# EAGLE library part TPS61032 (library LITTLEBITS140826)
Texas Instruments MPN: TPS61032 DC-DC Converter
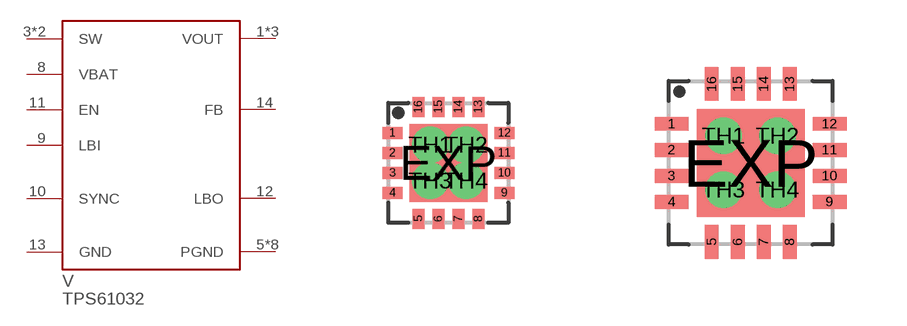
[diagram p75: symbol with the pads of QFN16; footprints QFN16, VQFN16]

Designator prefix V

## TPS61032  [QFN16]
1  VOUT
3  SW
4  SW
5  PGND
6  PGND
7  PGND
8  VBAT
9  LBI
10  SYNC
11  EN
12  LBO
13  GND
14  FB
15  VOUT
16  VOUT
EXP  PGND
TH1  PGND
TH2  PGND
TH3  PGND
TH4  PGND

## TPS61032"  [VQFN16]
Pads as for QFN16

## TPS61032AL  [VQFN16_THERM]
1  VOUT
3  SW
4  SW
5  PGND
6  PGND
7  PGND
8  VBAT
9  LBI
10  SYNC
11  EN
12  LBO
13  GND
14  FB
15  VOUT
16  VOUT
EXP  PGND
TH1  PGND
TH2  PGND
TH3  PGND
TH4  PGND
TH5  PGND
TH6  PGND
TH7  PGND
TH8  PGND
TH9  PGND

## Footprint QFN16 (pad centres in mm)
smd 0.5 x 0.3: 1 -1.4,0.75; 2 -1.4,0.25; 3 -1.4,-0.25; 4 -1.4,-0.75; 9 1.4,-0.75; 10 1.4,-0.25; 11 1.4,0.25; 12 1.4,0.75
smd 0.3 x 0.5: 5 -0.75,-1.4; 6 -0.25,-1.4; 7 0.25,-1.4; 8 0.75,-1.4; 13 0.75,1.4; 14 0.25,1.4; 15 -0.25,1.4; 16 -0.75,1.4
smd 1.95 x 1.95: EXP 0,0
drill 0.406 pad 0.406: TH1 -0.45,0.45; TH2 0.45,0.45; TH3 -0.45,-0.45; TH4 0.45,-0.45

## Footprint VQFN16 (pad centres in mm)
smd 0.85 x 0.35: 1 -1.975,0.975; 2 -1.975,0.325; 3 -1.975,-0.325; 4 -1.975,-0.975; 9 1.975,-0.975; 10 1.975,-0.325; 11 1.975,0.325; 12 1.975,0.975
smd 0.35 x 0.85: 5 -0.975,-1.975; 6 -0.325,-1.975; 7 0.325,-1.975; 8 0.975,-1.975; 13 0.975,1.975; 14 0.325,1.975; 15 -0.325,1.975; 16 -0.975,1.975
smd 2.7 x 2.7: EXP 0,0
drill 0.406 pad 0.406: TH1 -0.675,0.675; TH2 0.675,0.675; TH3 -0.675,-0.675; TH4 0.675,-0.675

## Footprint VQFN16_THERM (pad centres in mm)
smd 0.85 x 0.35: 1 -1.975,0.975; 2 -1.975,0.325; 3 -1.975,-0.325; 4 -1.975,-0.975; 9 1.975,-0.975; 10 1.975,-0.325; 11 1.975,0.325; 12 1.975,0.975
smd 0.35 x 0.85: 5 -0.975,-1.975; 6 -0.325,-1.975; 7 0.325,-1.975; 8 0.975,-1.975; 13 0.975,1.975; 14 0.325,1.975; 15 -0.325,1.975; 16 -0.975,1.975
smd 2.7 x 2.7: EXP 0,0
drill 0.2 pad 0.2: TH1 0,1.1; TH2 1.1,1.1; TH3 1.1,-1.1; TH4 0,-1.1; TH5 -1.1,1.1; TH6 1.1,0; TH7 0,0; TH8 -1.1,0; TH9 -1.1,-1.1